# Altium schematic symbol library W25Q128JVSIM.SchLib: 1 symbol
Pins are listed as number, name and electrical type; pins without a type are passive.

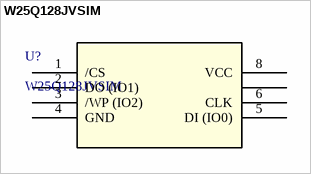
[diagram p0: symbol W25Q128JVSIM]

## W25Q128JVSIM
designator U?
Description; Manufacturer_Name: Winbond; Copyright: Copyright (C) 2025 Ultra Librarian. All rights reserved.; Manufacturer_Part_Number: W25Q128JVSIM; RefDes: RefDes; Type: Type
footprint SOIC_128JVSIM_WIN
pins: 1 /CS, 2 DO (IO1), 3 /WP (IO2), 4 GND (power), 5 DI (IO0), 6 CLK, 8 VCC (power), ?1